# EAGLE library part L6227PD (library my_ic)
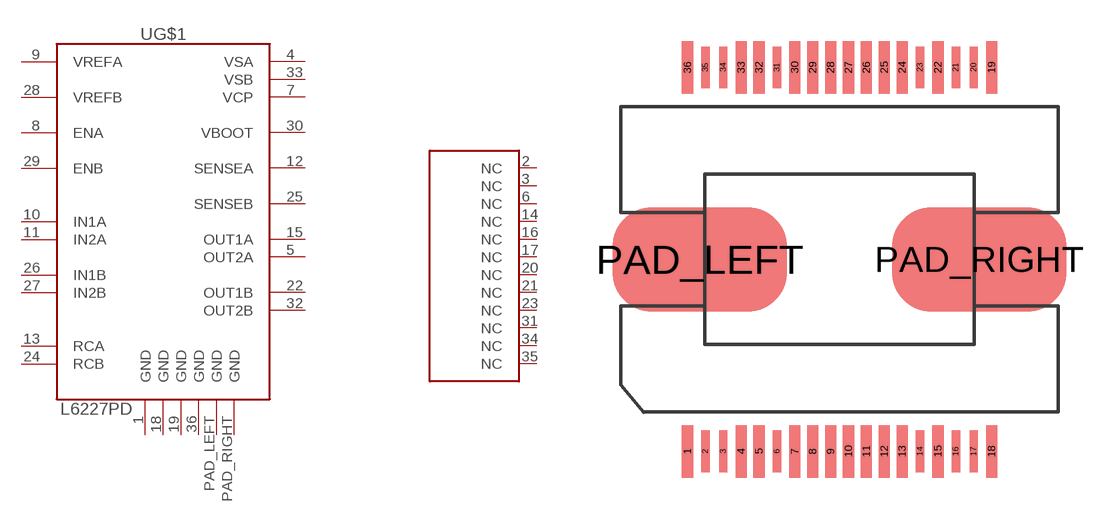
[diagram p3: symbol with the pads of L6227_POWERSO36; footprint L6227_POWERSO36]

Designator prefix -; gates G$1=L6227PD G$2=L6227PD_NC

## L6227PD  [L6227_POWERSO36]
1  G$1:GND  pwr
2  G$2:NC  nc
3  G$2:NC  nc
4  G$1:VSA  pwr
5  G$1:OUT2A  out
6  G$2:NC
7  G$1:VCP  pas
8  G$1:ENA  in
9  G$1:VREFA  in
10  G$1:IN1A  in
11  G$1:IN2A  in
12  G$1:SENSEA  in
13  G$1:RCA  pas
14  G$2:NC
15  G$1:OUT1A  out
16  G$2:NC
17  G$2:NC
18  G$1:GND  pwr
19  G$1:GND  pwr
20  G$2:NC
21  G$2:NC
22  G$1:OUT1B  out
23  G$2:NC
24  G$1:RCB  pas
25  G$1:SENSEB  in
26  G$1:IN1B  in
27  G$1:IN2B  in
28  G$1:VREFB  in
29  G$1:ENB  in
30  G$1:VBOOT  pas
31  G$2:NC
32  G$1:OUT2B  out
33  G$1:VSB  pwr
34  G$2:NC
35  G$2:NC
36  G$1:GND  pwr
PAD_LEFT  G$1:GND  pwr
PAD_RIGHT  G$1:GND  pwr

## Footprint L6227_POWERSO36 (pad centres in mm)
smd 0.406 x 1.905: 1 -5.524,-6.985; 4 -3.574,-6.985; 5 -2.924,-6.985; 7 -1.623,-6.985; 8 -0.973,-6.985; 9 -0.323,-6.985; 10 0.328,-6.985; 11 0.978,-6.985; 12 1.628,-6.985; 13 2.278,-6.985; 15 3.579,-6.985; 18 5.53,-6.985; 19 5.53,6.985; 22 3.579,6.985; 24 2.278,6.985; 25 1.628,6.985; 26 0.978,6.985; 27 0.328,6.985; 28 -0.323,6.985; 29 -0.973,6.985; 30 -1.623,6.985; 32 -2.924,6.985; 33 -3.574,6.985; 36 -5.524,6.985
smd 0.305 x 1.524: 2 -4.874,-6.985; 3 -4.224,-6.985; 6 -2.273,-6.985; 14 2.929,-6.985; 16 4.229,-6.985; 17 4.879,-6.985; 20 4.879,6.985; 21 4.229,6.985; 23 2.929,6.985; 31 -2.273,6.985; 34 -4.224,6.985; 35 -4.874,6.985
smd 6.35 x 3.81: PAD_LEFT -5.08,0; PAD_RIGHT 5.08,0